# Altium footprint library Connectors.PcbLib: 17 footprints (part 1 of 2)
Each footprint in its own frame and in the unit in brackets; x right, y up, seen from the top. Pads: shape width x height; smd on the part's side, far side on the other; paste and mask are expansions set on the pad; w line width, h text height; cw(c..) or ccw(c..) is an arc to the next point about the centre after c.
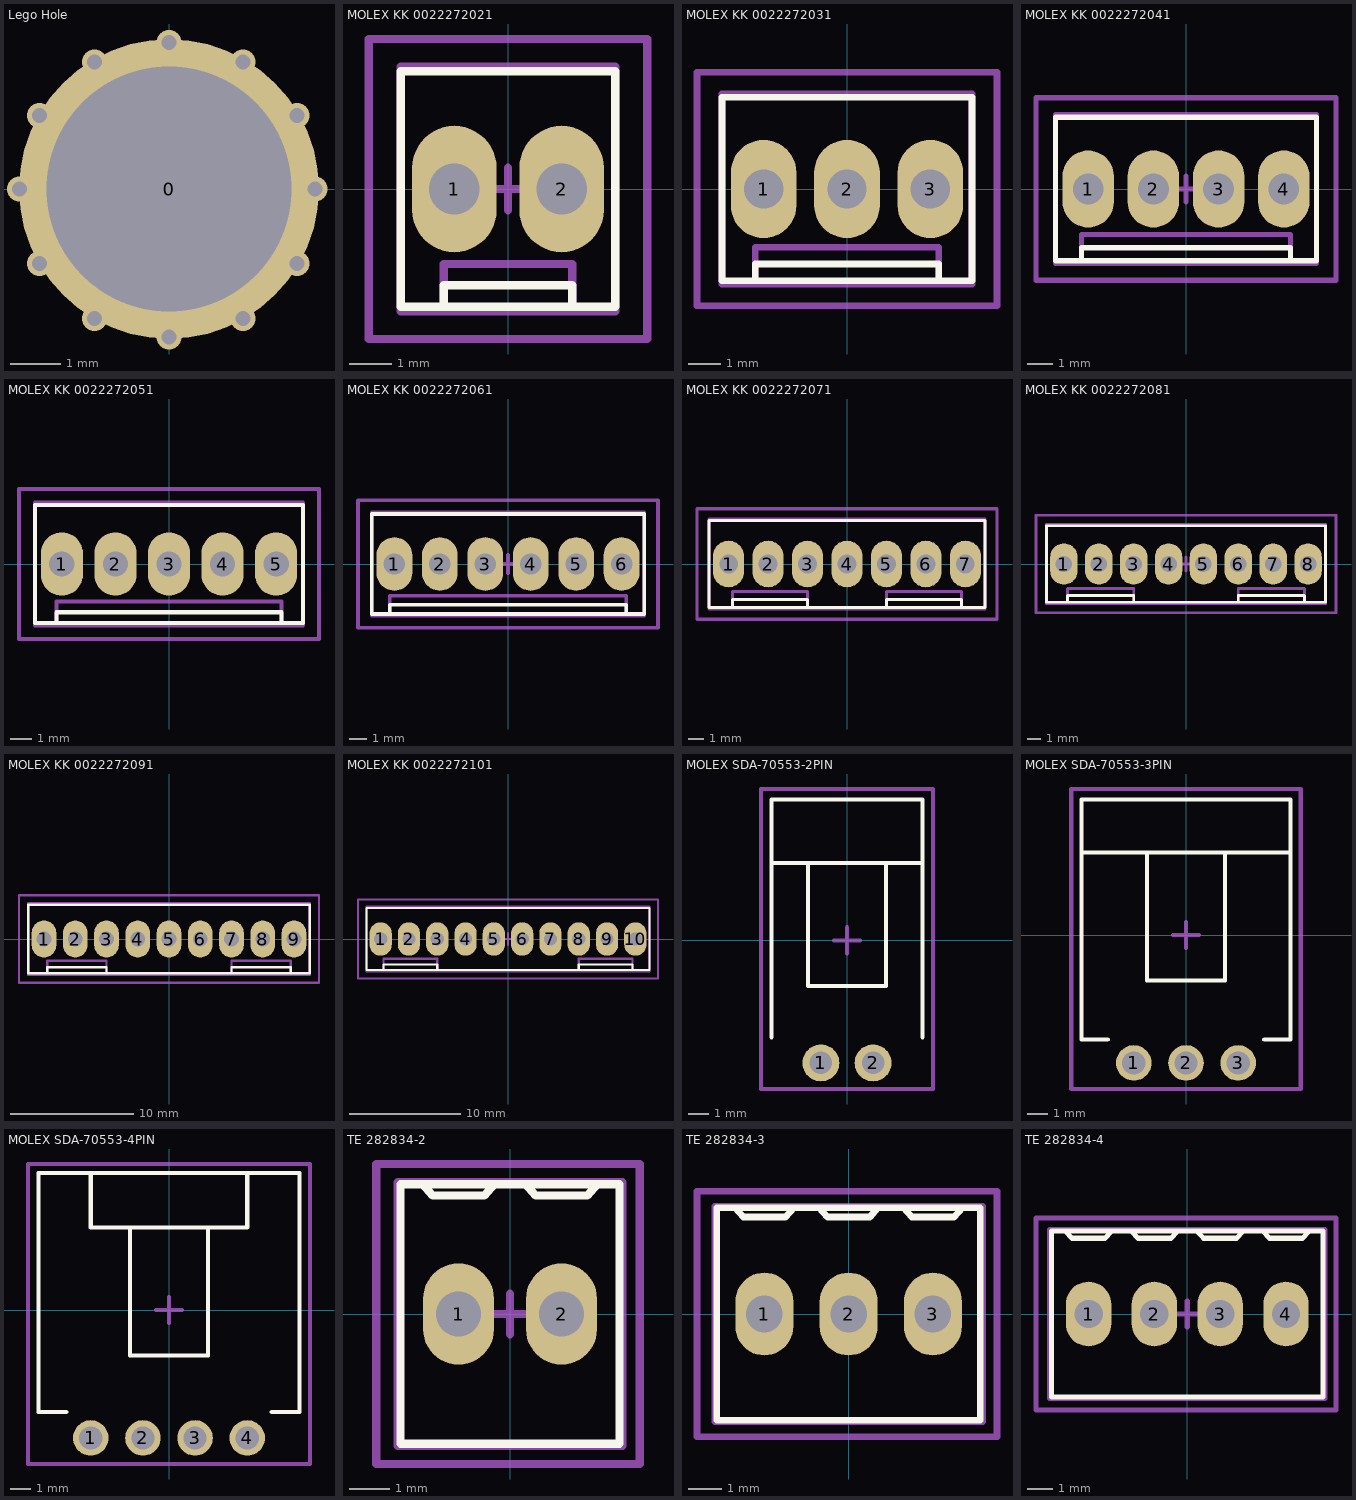
[diagram p0: the footprints below, top view; thin cyan lines are the x and y axes]

## Lego Hole [mm]
pads (1):
  round 6 hole 4.9: 0(0,0)
via 2.921,0 diameter 0.5 hole 0.3
via -1.494,2.538 diameter 0.5 hole 0.3
via 1.481,-2.589 diameter 0.5 hole 0.3
via -1.494,-2.589 diameter 0.5 hole 0.3
via 2.564,1.466 diameter 0.5 hole 0.3
via 1.481,2.538 diameter 0.5 hole 0.3
via -2.589,-1.495 diameter 0.5 hole 0.3
via 0,2.93 diameter 0.5 hole 0.3
via 2.564,-1.495 diameter 0.5 hole 0.3
via 0,-2.96 diameter 0.5 hole 0.3
via -2.589,1.466 diameter 0.5 hole 0.3
via -2.989,0 diameter 0.5 hole 0.3

## MOLEX KK 0022272021 [mm]
height 11.6
pads (2):
  oval 2x3 hole 1.2: 1(-1.27,0) 2(1.27,0)
Top Overlay:
  lines w0.2: -1.524,-2.794 -1.524,-2.286 1.524,-2.286 1.524,-2.794 ; -2.54,-2.794 -2.54,2.794 2.54,2.794 2.54,-2.794 -2.54,-2.794
Mechanical 13:
  lines w0.2: -1.524,-2.9 -1.524,-1.778 1.524,-1.778 1.524,-2.9 ; -2.54,-2.9 -2.54,2.9 2.54,2.9 2.54,-2.9 -2.54,-2.9
Mechanical 15:
  lines w0.2: -0.508,0 0.508,0 ; 0,-0.508 0,0.508 ; -3.302,-3.556 -3.302,3.556 3.302,3.556 3.302,-1.016 3.302,-3.556 -1.016,-3.556 -3.302,-3.556
3D body "MOLEX KK 022272021.STEP": height 11.7, standoff -3.56, extent -2.54,-2.9 2.54,2.9

## MOLEX KK 0022272031 [mm]
height 11.6
pads (3):
  oval 2x3 hole 1.2: 1(-2.54,0) 2(0,0) 3(2.54,0)
Top Overlay:
  lines w0.2: -2.794,-2.794 -2.794,-2.286 2.794,-2.286 2.794,-2.794 ; -3.81,-2.794 3.81,-2.794 3.81,2.794 -3.81,2.794 -3.81,-2.794
Mechanical 13:
  lines w0.2: -2.794,-2.9 -2.794,-1.778 2.794,-1.778 2.794,-2.9 ; -3.81,-2.9 -3.81,2.9 3.81,2.9 3.81,-2.9 -3.81,-2.9
Mechanical 15:
  lines w0.2: -0.508,0 0.508,0 ; 0,-0.508 0,0.508 ; -4.572,-3.556 -4.572,3.556 4.572,3.556 4.572,-1.016 4.572,-3.556 -2.286,-3.556 -4.572,-3.556
3D body "MOLEX KK 022272031.STEP": height 11.7, standoff -3.56, extent -3.81,-2.9 3.81,2.9

## MOLEX KK 0022272041 [mm]
height 11.6
pads (4):
  oval 2x3 hole 1.2: 1(-3.81,0) 2(-1.27,0) 3(1.27,0) 4(3.81,0)
Top Overlay:
  lines w0.2: -4.064,-2.794 -4.064,-2.286 4.064,-2.286 4.064,-2.794 ; -5.08,-2.794 5.08,-2.794 5.08,2.794 -5.08,2.794 -5.08,-2.794
Mechanical 13:
  lines w0.2: -4.064,-2.9 -4.064,-1.778 4.064,-1.778 4.064,-2.9 ; -5.08,-2.9 -5.08,2.9 5.08,2.9 5.08,-2.9 -5.08,-2.9
Mechanical 15:
  lines w0.2: -0.508,0 0.508,0 ; 0,-0.508 0,0.508 ; -5.842,-3.556 -5.842,3.556 5.842,3.556 5.842,-1.016 5.842,-3.556 -3.556,-3.556 -5.842,-3.556
3D body "MOLEX KK 022272041.STEP": height 11.7, standoff -3.56, extent -5.08,-2.9 5.08,2.9

## MOLEX KK 0022272051 [mm]
height 11.6
pads (5):
  oval 2x3 hole 1.2: 1(-5.08,0) 2(-2.54,0) 3(0,0) 4(2.54,0) 5(5.08,0)
Top Overlay:
  lines w0.2: -5.334,-2.794 -5.334,-2.286 5.334,-2.286 5.334,-2.794 ; -6.35,-2.794 -6.35,2.794 6.35,2.794 6.35,-2.794 -6.35,-2.794
Mechanical 13:
  lines w0.2: -5.334,-2.9 -5.334,-1.778 5.334,-1.778 5.334,-2.9 ; -6.35,-2.9 6.35,-2.9 6.35,2.9 -6.35,2.9 -6.35,-2.9
Mechanical 15:
  lines w0.2: -0.508,0 0.508,0 ; 0,-0.508 0,0.508 ; -7.112,-3.556 7.112,-3.556 7.112,-1.016 7.112,3.556 -7.112,3.556 -7.112,-3.556
3D body "MOLEX KK 022272051.STEP": height 11.7, standoff -3.56, extent -6.35,-2.9 6.35,2.9

## MOLEX KK 0022272061 [mm]
height 11.6
pads (6):
  oval 2x3 hole 1.2: 1(-6.35,0) 2(-3.81,0) 3(-1.27,0) 4(1.27,0) 5(3.81,0) 6(6.35,0)
Top Overlay:
  lines w0.2: -6.604,-2.794 -6.604,-2.286 6.604,-2.286 6.604,-2.794 ; -7.62,-2.794 7.62,-2.794 7.62,2.794 -7.62,2.794 -7.62,-2.794
Mechanical 13:
  lines w0.2: -6.604,-2.9 -6.604,-1.778 6.604,-1.778 6.604,-2.9 ; -7.62,-2.9 -7.62,2.9 7.62,2.9 7.62,-2.9 -7.62,-2.9
Mechanical 15:
  lines w0.2: -0.508,0 0.508,0 ; 0,-0.508 0,0.508 ; -8.382,-3.556 -8.382,3.556 8.382,3.556 8.382,-1.016 8.382,-3.556 -8.382,-3.556
3D body "MOLEX KK 022272061.STEP": height 11.7, standoff -3.56, extent -7.62,-2.9 7.62,2.9

## MOLEX KK 0022272071 [mm]
height 11.6
pads (7):
  oval 2x3 hole 1.2: 1(-7.62,0) 2(-5.08,0) 3(-2.54,0) 4(0,0) 5(2.54,0) 6(5.08,0) 7(7.62,0)
Top Overlay:
  lines w0.2: -7.366,-2.794 -7.366,-2.286 -2.54,-2.286 -2.54,-2.794 ; 2.54,-2.794 2.54,-2.286 7.366,-2.286 7.366,-2.794 ; -8.89,-2.794 8.89,-2.794 8.89,2.794 -8.89,2.794 -8.89,-2.794
Mechanical 13:
  lines w0.2: -7.366,-2.9 -7.366,-1.778 -2.54,-1.778 -2.54,-2.9 ; 2.54,-2.9 2.54,-1.778 7.366,-1.778 7.366,-2.9 ; -8.89,-2.9 -8.89,2.9 8.89,2.9 8.89,-2.9 -8.89,-2.9
Mechanical 15:
  lines w0.2: -0.508,0 0.508,0 ; 0,-0.508 0,0.508 ; -9.652,-3.556 -9.652,3.556 9.652,3.556 9.652,-1.016 9.652,-3.556 -9.652,-3.556
3D body "MOLEX KK 022272071.STEP": height 11.7, standoff -3.56, extent -8.89,-2.9 8.89,2.9

## MOLEX KK 0022272081 [mm]
height 11.6
pads (8):
  oval 2x3 hole 1.2: 1(-8.89,0) 2(-6.35,0) 3(-3.81,0) 4(-1.27,0) 5(1.27,0) 6(3.81,0) 7(6.35,0) 8(8.89,0)
Top Overlay:
  lines w0.2: -8.636,-2.794 -8.636,-2.286 -3.81,-2.286 -3.81,-2.794 ; 3.81,-2.794 3.81,-2.286 8.636,-2.286 8.636,-2.794 ; -10.16,-2.794 -10.16,2.794 10.16,2.794 10.16,-2.794 -10.16,-2.794
Mechanical 13:
  lines w0.2: -8.636,-2.9 -8.636,-1.778 -3.81,-1.778 -3.81,-2.9 ; 3.81,-2.9 3.81,-1.778 8.636,-1.778 8.636,-2.9 ; -10.16,-2.9 10.16,-2.9 10.16,2.9 -10.16,2.9 -10.16,-2.9
Mechanical 15:
  lines w0.2: -0.508,0 0.508,0 ; 0,-0.508 0,0.508 ; -10.922,-3.556 10.922,-3.556 10.922,-1.016 10.922,3.556 -10.922,3.556 -10.922,-3.556
3D body "MOLEX KK 022272081.STEP": height 11.7, standoff -3.56, extent -10.16,-2.9 10.16,2.9

## MOLEX KK 0022272091 [mm]
height 11.6
pads (9):
  oval 2x3 hole 1.2: 1(-10.16,0) 2(-7.62,0) 3(-5.08,0) 4(-2.54,0) 5(0,0) 6(2.54,0) 7(5.08,0) 8(7.62,0) 9(10.16,0)
Top Overlay:
  lines w0.2: -9.906,-2.794 -9.906,-2.286 -5.08,-2.286 -5.08,-2.794 ; 5.08,-2.794 5.08,-2.286 9.906,-2.286 9.906,-2.794 ; -11.43,-2.794 -11.43,2.794 11.43,2.794 11.43,-2.794 -11.43,-2.794
Mechanical 13:
  lines w0.2: -9.906,-2.9 -9.906,-1.778 -5.08,-1.778 -5.08,-2.9 ; 5.08,-2.9 5.08,-1.778 9.906,-1.778 9.906,-2.9 ; -11.43,-2.9 11.43,-2.9 11.43,2.9 -11.43,2.9 -11.43,-2.9
Mechanical 15:
  lines w0.2: -0.508,0 0.508,0 ; 0,-0.508 0,0.508 ; -12.192,-3.556 12.192,-3.556 12.192,-1.016 12.192,3.556 -12.192,3.556 -12.192,-3.556
3D body "MOLEX KK 022272091.STEP": height 11.7, standoff -3.56, extent -11.43,-2.9 11.43,2.9

## MOLEX KK 0022272101 [mm]
height 11.6
pads (10):
  oval 2x3 hole 1.2: 1(-11.43,0) 2(-8.89,0) 3(-6.35,0) 4(-3.81,0) 5(-1.27,0) 6(1.27,0) 7(3.81,0) 8(6.35,0) 9(8.89,0) 10(11.43,0)
Top Overlay:
  lines w0.2: -11.176,-2.794 -11.176,-2.286 -6.35,-2.286 -6.35,-2.794 ; 6.35,-2.794 6.35,-2.286 11.176,-2.286 11.176,-2.794 ; -12.7,-2.794 12.7,-2.794 12.7,2.794 -12.7,2.794 -12.7,-2.794
Mechanical 13:
  lines w0.2: -11.176,-2.9 -11.176,-1.778 -6.35,-1.778 -6.35,-2.9 ; 6.35,-2.9 6.35,-1.778 11.176,-1.778 11.176,-2.9 ; -12.7,-2.9 -12.7,2.9 12.7,2.9 12.7,-2.9 -12.7,-2.9
Mechanical 15:
  lines w0.2: -0.508,0 0.508,0 ; 0,-0.508 0,0.508 ; -13.462,-3.556 -13.462,3.556 13.462,3.556 13.462,-1.016 13.462,-3.556 -13.462,-3.556
3D body "MOLEX KK 022272101.STEP": height 11.7, standoff -3.56, extent -12.7,-2.9 12.7,2.9

## MOLEX SDA-70553-2PIN [mm] "SL Right angle header with latch, 0.100 centres, SDA-70553"
height 6.99
pads (2):
  round 1.8 hole 1.09: 1(-1.27,-5.969) 2(1.27,-5.969)
Top Overlay:
  lines w0.2: -3.683,-4.719 -3.683,6.858 3.683,6.858 3.683,-4.719 ; -3.627,3.765 3.683,3.765 ; -1.905,3.765 -1.905,-2.219 1.905,-2.219 1.905,3.765
Mechanical 15:
  lines w0.2: -0.635,0 0.635,0 ; 0,-0.635 0,0.635 ; -4.191,-7.239 4.191,-7.239 4.191,7.366 -4.191,7.366 -4.191,-7.239
3D body "705530001.STEP": height 6.96, standoff -3.32, extent -3.683,-6.719 3.683,6.87

## MOLEX SDA-70553-3PIN [mm] "SL Right Angle Header W/LAtch & Trip-Pegs 2.54mm Centres"
height 6.99
pads (3):
  round 1.73 hole 1.13: 1(-2.54,-6.223) 2(0,-6.223) 3(2.54,-6.223)
Top Overlay:
  lines w0.2: -5.08,4.019 5.08,4.019 ; -3.81,-5.08 -5.08,-5.08 -5.08,6.604 5.08,6.604 5.08,-5.08 3.81,-5.08 ; -1.905,4.019 -1.905,-2.219 1.905,-2.219 1.905,4.019
Mechanical 15:
  lines w0.2: -0.635,0 0.635,0 ; 0,-0.635 0,0.635 ; -5.588,-7.493 -4.953,-7.493 5.588,-7.493 5.588,7.112 -5.588,7.112 -5.588,-7.493
3D body "705530002.STEP": height 6.98, standoff -3.3, extent -5.08,-6.923 5.08,6.666

## MOLEX SDA-70553-4PIN [mm] "SL Right Angle Header W/LAtch & Trip-Pegs 2.54mm Centres"
height 6.99
pads (4):
  round 1.73 hole 1.13: 1(-3.81,-6.223) 2(-1.27,-6.223) 3(1.27,-6.223) 4(3.81,-6.223)
Top Overlay:
  lines w0.2: -5,-4.953 -6.35,-4.953 -6.35,6.677 6.35,6.677 6.35,-4.953 5,-4.953 ; -3.81,6.677 -3.81,4.019 3.81,4.019 3.81,6.677 ; -1.905,4.019 -1.905,-2.219 1.905,-2.219 1.905,4.019
Mechanical 15:
  lines w0.2: -0.635,0 0.635,0 ; 0,-0.635 0,0.635 ; -6.858,-7.493 6.858,-7.493 6.858,7.112 -6.858,7.112 -6.858,-7.493
3D body "705530003.STEP": height 6.98, standoff -3.3, extent -6.35,-6.923 6.35,6.666

## TE 282834-2 [mm]
height 10
pads (2):
  oval 1.75x2.5 hole 1.1: 1(-1.27,0) 2(1.27,0)
Top Overlay:
  lines w0.2: -2.159,3.2 -1.905,2.921 -0.635,2.921 -0.381,3.2 ; 0.381,3.2 0.635,2.921 1.905,2.921 2.159,3.2 ; -2.7,-3.2 -2.6,-3.2 2.7,-3.2 2.7,3.2 -2.7,3.2 -2.7,-3.2
Mechanical 13:
  lines w0.2: -2.77,-3.25 -2.77,3.25 2.77,3.25 2.77,-3.25 -2.77,-3.25
Mechanical 15:
  lines w0.2: -0.5,0 0.5,0 ; 0,-0.5 0,0.5 ; -3.3,-3.7 3.2,-3.7 3.2,-2.9 3.2,3.7 -3.3,3.7 -3.3,-3.3 -3.3,-3.7
3D body "TE Term Block 2port 282834-2-c-3d.STEP": height 10, standoff -3.4, extent -2.77,-3.25 2.77,3.25

## TE 282834-3 [mm]
height 10
pads (3):
  oval 1.75x2.5 hole 1.1: 1(-2.54,0) 2(0,0) 3(2.54,0)
Top Overlay:
  lines w0.2: -3.429,3.2 -3.175,2.921 -1.905,2.921 -1.651,3.2 ; -0.889,3.2 -0.635,2.921 0.635,2.921 0.889,3.2 ; 1.651,3.2 1.905,2.921 3.175,2.921 3.429,3.2 ; -3.97,-3.2 -3.87,-3.2 3.97,-3.2 3.97,3.2 -3.97,3.2 -3.97,-3.2
Mechanical 13:
  lines w0.2: -4.04,-3.25 -4.04,3.25 4.04,3.25 4.04,-3.25 -4.04,-3.25
Mechanical 15:
  lines w0.2: -0.5,0 0.5,0 ; 0,-0.5 0,0.5 ; -4.57,-3.7 4.47,-3.7 4.47,-2.9 4.47,3.7 -4.57,3.7 -4.57,-3.3 -4.57,-3.7
3D body "TE Term Block 3port 282834-3-c-3d.STEP": height 10, standoff -3.4, extent -4.04,-3.25 4.04,3.25

## TE 282834-4 [mm]
height 10
pads (4):
  oval 1.75x2.5 hole 1.1: 1(-3.81,0) 2(-1.27,0) 3(1.27,0) 4(3.81,0)
Top Overlay:
  lines w0.2: -4.699,3.2 -4.445,2.921 -3.175,2.921 -2.921,3.2 ; -2.159,3.2 -1.905,2.921 -0.635,2.921 -0.381,3.2 ; 0.381,3.2 0.635,2.921 1.905,2.921 2.159,3.2 ; 2.921,3.2 3.175,2.921 4.445,2.921 4.699,3.2 ; -5.24,-3.2 -5.24,3.2 5.24,3.2 5.24,-3.2 -5.14,-3.2 -5.24,-3.2
Mechanical 13:
  lines w0.2: -5.31,-3.25 5.31,-3.25 5.31,3.25 -5.31,3.25 -5.31,-3.25
Mechanical 15:
  lines w0.2: -0.5,0 0.5,0 ; 0,-0.5 0,0.5 ; -5.84,-3.7 -5.84,-3.3 -5.84,3.7 5.74,3.7 5.74,-2.9 5.74,-3.7 -5.84,-3.7
3D body "TE Term Block 4port 282834-4-c-3d.STEP": height 10, standoff -3.4, extent -5.31,-3.25 5.31,3.25